# EAGLE library part FYS-2811A (library opto)
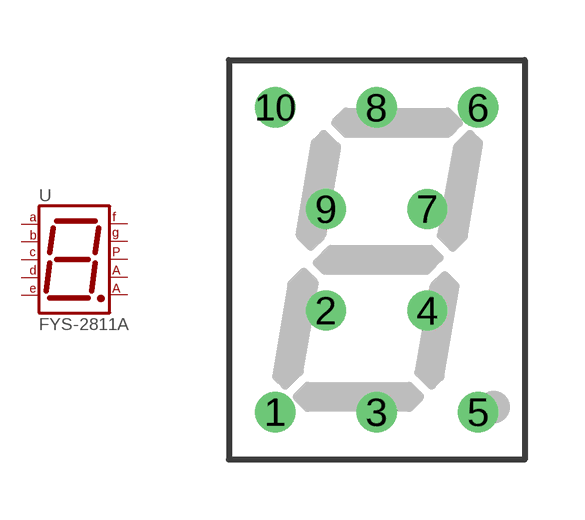
[diagram p0: symbol with the pads of FYS-2811A; footprint FYS-2811A]

Designator prefix -

## FYS-2811A  [FYS-2811A]
1  E  pas
2  D  pas
3  CA1  pas
4  C  pas
5  DP  pas
6  B  pas
7  A  pas
8  CA2  pas
9  G  pas
10  F  pas

## Footprint FYS-2811A (pad centres in mm)
drill 0.5: 1 -2.54,-3.81; 2 -1.27,-1.27; 3 0,-3.81; 4 1.27,-1.27; 5 2.54,-3.81; 6 2.54,3.81; 7 1.27,1.27; 8 0,3.81; 9 -1.27,1.27; 10 -2.54,3.81